# Altium schematic symbol library RES,Trim,15T,2k,0.75W,Side-Adj,Thru.Schlib: 1 symbol
Pins are listed as number, name and electrical type; pins without a type are passive.

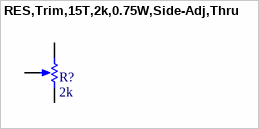
[diagram p0: symbol RES,Trim,15T,2k,0.75W,Side-Adj,Thru]

## RES,Trim,15T,2k,0.75W,Side-Adj,Thru
designator R?, comment 2k
0.75W, 3/4W PC Pins Through Hole Trimmer Potentiometer Cermet Turn Side Adjustment
pins: 1 BOT, 2 TAP, 3 TOP
1 alternate drawing of the same symbol